# Altium footprint library RES_ERJU12F5600U.PcbLib: 1 footprints
Each footprint in its own frame and in the unit in brackets; x right, y up, seen from the top. Pads: shape width x height; smd on the part's side, far side on the other; paste and mask are expansions set on the pad; w line width, h text height; cw(c..) or ccw(c..) is an arc to the next point about the centre after c.
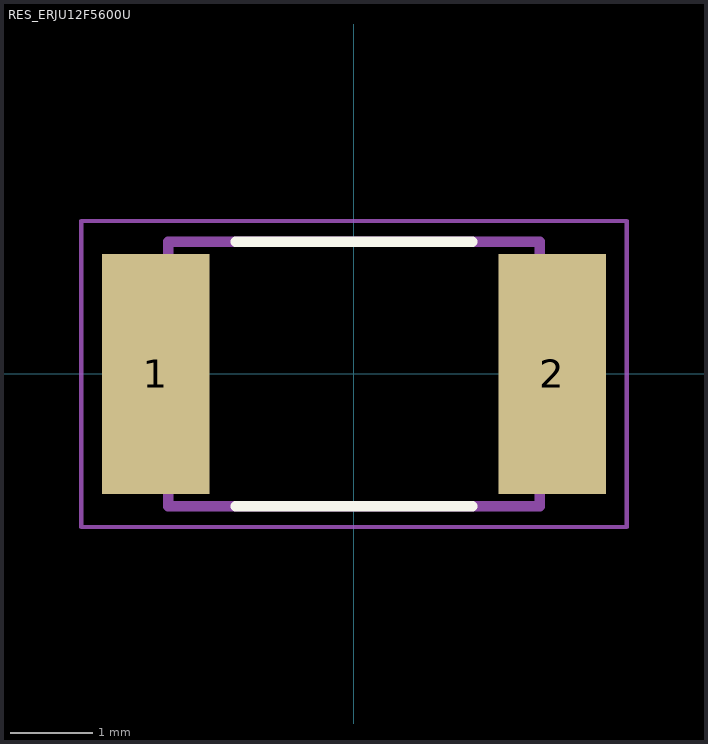
[diagram p0: the footprint, top view; thin cyan lines are the x and y axes]

## RES_ERJU12F5600U [mm]
pads (2):
  rect 1.3x2.9 smd: 1(-2.4,0) 2(2.4,0)
Top Overlay:
  lines w0.127: -1.43,-1.6 1.43,-1.6 ; -1.43,1.6 1.43,1.6
Mechanical 13:
  lines w0.127: -2.25,-1.6 2.25,-1.6 2.25,1.6 -2.25,1.6 -2.25,-1.6
Mechanical 15:
  lines w0.05: -3.3,-1.85 3.3,-1.85 3.3,1.85 -3.3,1.85 -3.3,-1.85
3D body "ERJ-U12F5600U.STEP": height 0.6, standoff 0, extent -2.377,-1.6 2.123,1.6